# EAGLE library part ADA-808 (library soofa_library)
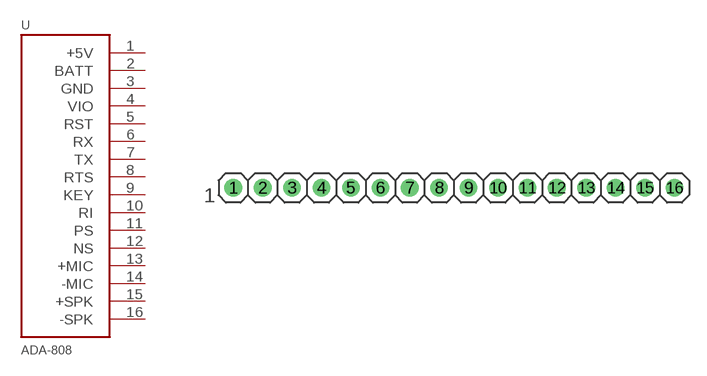
[diagram p1: symbol with the pads of 1X16; footprint 1X16]

Designator prefix -

## ADA-808  [1X16]
1  +5V
2  BATT
3  GND
4  VIO
5  RST
6  RX
7  TX
8  RTS
9  KEY
10  RI
11  PS
12  NS
13  +MIC
14  -MIC
15  +SPK
16  -SPK

## Footprint 1X16 (pad centres in mm)
PIN HEADER
drill 1.016: 1 -19.05,0; 2 -16.51,0; 3 -13.97,0; 4 -11.43,0; 5 -8.89,0; 6 -6.35,0; 7 -3.81,0; 8 -1.27,0; 9 1.27,0; 10 3.81,0; 11 6.35,0; 12 8.89,0; 13 11.43,0; 14 13.97,0; 15 16.51,0; 16 19.05,0